# Altium footprint library Hcpl4.PcbLib: 14 footprints
Each footprint in its own frame and in the unit in brackets; x right, y up, seen from the top. Pads: shape width x height; smd on the part's side, far side on the other; paste and mask are expansions set on the pad; w line width, h text height; cw(c..) or ccw(c..) is an arc to the next point about the centre after c.
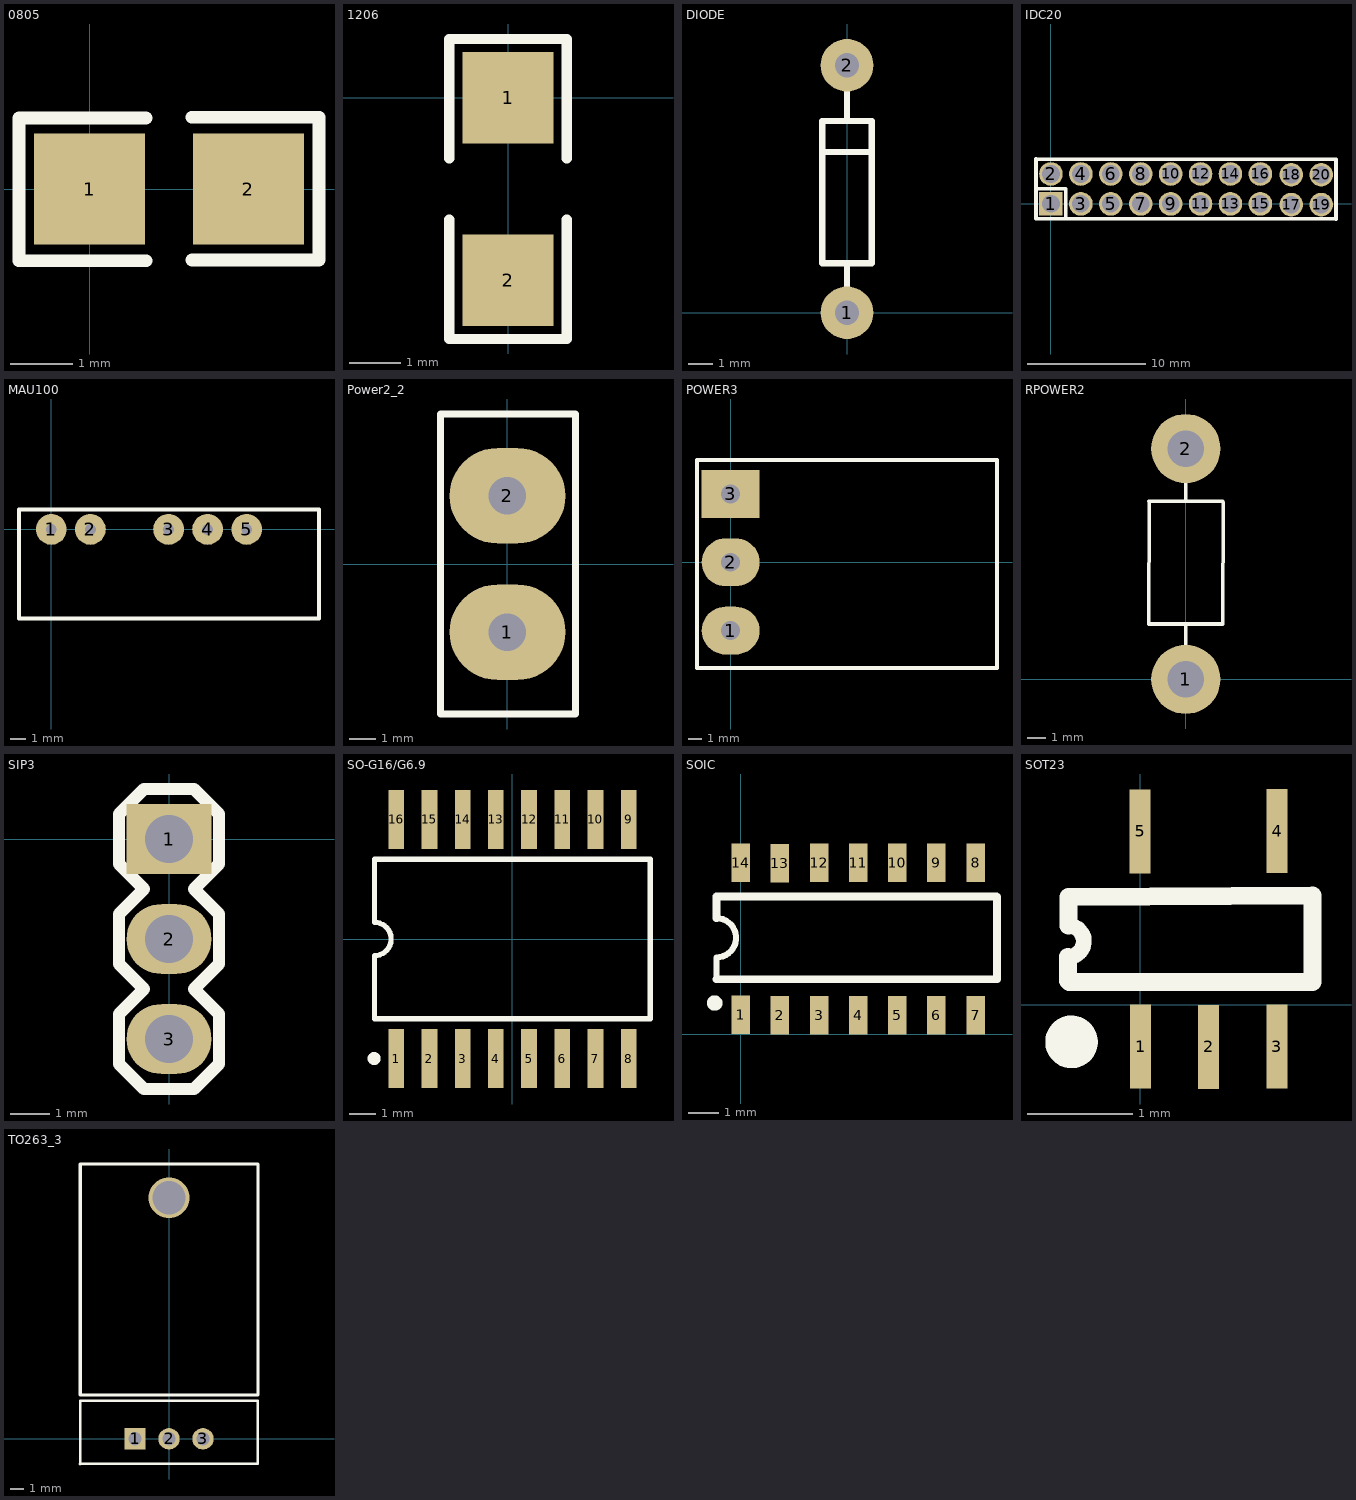
[diagram p0: the footprints below, top view; thin cyan lines are the x and y axes]

## 0805 [mil]
pads (2):
  rect 70x70 smd: 1(0,0) 2(100,0)
Top Overlay:
  lines w8: 35.48,-45.22 -44.52,-45.22 -44.52,44.78 35.48,44.77 ; 64.52,-44.78 144.52,-44.77 144.52,45.23 64.52,45.23

## 1206 [mil]
height 70
pads (2):
  rect 70x70 smd: 1(0,0) 2(0,-140)
Top Overlay:
  lines w8: -45,-93.5 -45,-185 45,-185 45,-93.5 ; -45,-46.5 -45,45 45,45 45,-46.5

## 3528P [mm]

## DIODE [mil]
pads (2):
  round 85 hole 39.37: 1(0,0) 2(0,400)
Top Overlay:
  lines w10: -40,260 40,260 ; 0,40 0,80 ; 0,310 0,360 ; 40,120 40,310 -40,310 -40,120 -40,80 40,80 40,140

## IDC20 [mm]
pads (20):
  rect 2x2 hole 1.5: 1(0,0)
  round 2 hole 1.5: 2(0,2.54) 3(2.54,0) 4(2.54,2.54) 5(5.08,0) 6(5.08,2.54) 7(7.62,0) 8(7.62,2.54) 9(10.16,0) 10(10.16,2.54) 11(12.7,0) 12(12.7,2.54) 13(15.24,0) 14(15.24,2.54) 15(17.78,0) 16(17.78,2.54) 17(20.4,-0.06) 18(20.4,2.48) 19(22.94,-0.06) 20(22.94,2.48)
Top Overlay:
  lines w0.305: -1.27,1.27 1.27,1.27 1.27,-1.27 ; -1.27,-1.27 -1.27,3.81 24.2,3.8 24.2,-1.28 -1.27,-1.27

## MAU100 [mm]
pads (5):
  round 2 hole 0.7: 1(0,0) 2(2.54,0) 3(7.62,0) 4(10.16,0) 5(12.7,0)
Top Overlay:
  lines w0.254: -2.1,-5.8 -2.1,1.3 17.4,1.3 17.4,-5.8 -2.1,-5.8

## Power2_2 [mil]
pads (2):
  oval 170x140 hole 55: 1(0,-100) 2(0,100)
Top Overlay:
  lines w10: -98.43,-220 -98.43,220 100,220 100,-220 -98.43,-220

## POWER3 [mil]
pads (3):
  oval 170x140 hole 55.12: 1(0,-200) 2(0,0)
  rect 170x140 hole 55.12: 3(0,200)
Top Overlay:
  lines w12: -98.43,-310 780,-310 780,300 -98.43,300 -98.43,-310

## RPOWER2 [mm]
pads (2):
  round 3.81 hole 2: 1(0,0) 2(0,12.7)
Top Overlay:
  lines w0.2: -2.032,9.804 2.032,9.804 ; -2.007,9.804 -2.032,3.048 2.032,3.048 2.057,9.754 ; 0,1.245 0,3.023 ; 0,9.804 0,11.582

## SIP3 [mil]
height 70
pads (3):
  rect 85x70 hole 48: 1(0,0)
  oval 85x70 hole 48: 2(0,-100) 3(0,-200)
Top Overlay:
  lines w12: -50,-225 -50,-175 -25,-150 -50,-125 -50,-75 -25,-50 -50,-25 -50,25 -25,50 25,50 50,25 50,-25 25,-50 50,-75 50,-125 25,-150 50,-175 50,-225 25,-250 -25,-250 -50,-225

## SO-G16/G6.9 [mm]
pads (16):
  rect 0.6x2.25 smd: 1(-4.435,-4.568) 2(-3.165,-4.568) 3(-1.895,-4.568) 4(-0.625,-4.568) 5(0.645,-4.568) 6(1.915,-4.568) 7(3.185,-4.568) 8(4.455,-4.568) 9(4.455,4.582) 10(3.185,4.582) 11(1.915,4.582) 12(0.645,4.582) 13(-0.625,4.582) 14(-1.895,4.582) 15(-3.165,4.582) 16(-4.435,4.582)
Top Overlay:
  circle w0.25: c-5.285,-4.568 r0.125
  lines w0.2: -5.265,-3.043 -5.265,-0.628 ccw(c-5.265,0.007) -5.265,0.642 -5.265,3.057 5.285,3.057 5.285,-3.043 -5.265,-3.043

## SOIC [mm]
height 1.778
pads (14):
  rect 0.6x1.25 smd: 1(-0.005,0.622) 2(1.27,0.61) 3(2.54,0.61) 4(3.81,0.61) 5(5.08,0.61) 6(6.35,0.61) 7(7.62,0.61) 8(7.62,5.563) 9(6.35,5.563) 10(5.08,5.563) 11(3.81,5.563) 12(2.54,5.563) 13(1.27,5.537) 14(0,5.563)
Top Overlay:
  circle w0.25: c-0.845,1.008 r0.125
  lines w0.2: -0.787,1.778 -0.787,2.489 ccw(c-0.787,3.124) -0.787,3.759
  lines w0.254: -0.787,1.778 8.315,1.778 8.315,4.458 8.303,4.47 -0.787,4.47 -0.787,3.759

## SOT23 [mm]
pads (5):
  rect 0.2x0.8 smd: 1(0.005,-0.399) 2(0.65,-0.401) 3(1.3,-0.399) 4(1.303,1.654) 5(0,1.651)
Top Overlay:
  circle w0.25: c-0.653,-0.353 r0.125
  lines w0.15: -0.686,0.457 ccw(c-0.684,0.605) -0.684,0.752
  lines w0.17: -0.686,0.457 -0.686,0.229 -0.678,0.221 -0.676,0.218 1.641,0.218 1.641,1.039 -0.683,1.026 ; -0.684,0.752 -0.684,1.026 ; -0.684,1.026 -0.683,1.026

## TO263_3 [mm]
pads (3):
  rect 1.6x1.6 hole 1: 1(-2.54,0)
  round 1.6 hole 1: 2(0,0) 3(2.54,0)
via 0,18.034 diameter 3.048 hole 2.489
Top Overlay:
  lines w0.17: -6.655,-1.88 -6.629,-1.854 -6.629,2.845
  lines w0.2: -6.655,-1.88 6.645,-1.85 6.645,2.85 -6.629,2.845
  lines w0.254: 6.655,20.523 6.655,3.277 -6.629,3.277 -6.629,16.535 -6.629,20.549 6.655,20.549
Top Solder:
  rectangle: -6.502,3.404 6.528,16.408